# Altium schematic symbol library BC817-16.Schlib: 1 symbol
Pins are listed as number, name and electrical type; pins without a type are passive.

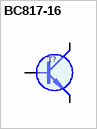
[diagram p0: symbol BC817-16]

## BC817-16
designator T?
SOT23     45V 0.5A 100MHz 10p (10V) (BC807)
pins: 1 B, 2 E (oe), 3 C (oc)
1 alternate drawing of the same symbol